# EAGLE library part LM4931 (library Audio-Power-amlifier V.2.0)
LM4931 Boomer™ Audio Power Amplifier Series Audio Subsystem with Mono High Efficiency Loudspeaker and Stereo Headphone Amplifiers
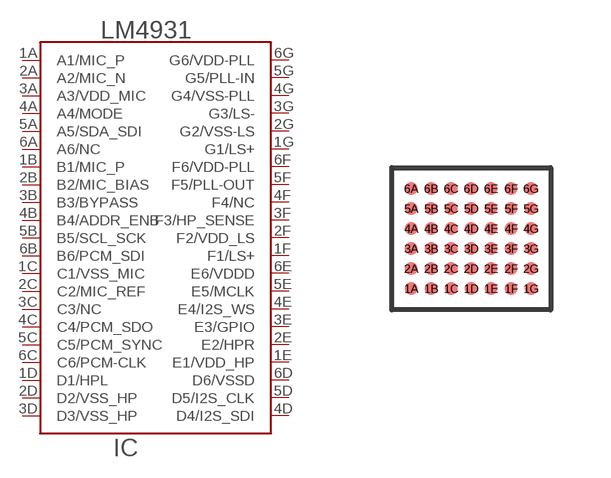
[diagram p250: symbol with the pads of DSBGA42; footprint DSBGA42]

Designator prefix IC

## LM4931  [DSBGA42]
1A  A1/MIC_P  in
1B  B1/MIC_P  in
1C  C1/VSS_MIC  pwr
1D  D1/HPL  out
1E  E1/VDD_HP  pwr
1F  F1/LS+  out
1G  G1/LS+  out
2A  A2/MIC_N  in
2B  B2/MIC_BIAS  out
2C  C2/MIC_REF  in
2D  D2/VSS_HP  pwr
2E  E2/HPR  out
2F  F2/VDD_LS  pwr
2G  G2/VSS-LS  pwr
3A  A3/VDD_MIC  pwr
3B  B3/BYPASS  in
3C  C3/NC  nc
3D  D3/VSS_HP  pwr
3E  E3/GPIO  out
3F  F3/HP_SENSE  in
3G  G3/LS-  out
4A  A4/MODE  in
4B  B4/ADDR_ENB  in
4C  C4/PCM_SDO  out
4D  D4/I2S_SDI  in
4E  E4/I2S_WS
4F  F4/NC  nc
4G  G4/VSS-PLL  pwr
5A  A5/SDA_SDI
5B  B5/SCL_SCK  in
5C  C5/PCM_SYNC
5D  D5/I2S_CLK
5E  E5/MCLK  in
5F  F5/PLL-OUT  out
5G  G5/PLL-IN  in
6A  A6/NC  nc
6B  B6/PCM_SDI  in
6C  C6/PCM-CLK
6D  D6/VSSD  pwr
6E  E6/VDDD  pwr
6F  F6/VDD-PLL  pwr
6G  G6/VDD-PLL  pwr

## Footprint DSBGA42 (pad centres in mm)
DSBGA42 www.ti.com
smd 0.32 x 0.32: 1A -1.5,-1.25; 1B -1,-1.25; 1C -0.5,-1.25; 1D 0,-1.25; 1E 0.5,-1.25; 1F 1,-1.25; 1G 1.5,-1.25; 2A -1.5,-0.75; 2B -1,-0.75; 2C -0.5,-0.75; 2D 0,-0.75; 2E 0.5,-0.75; 2F 1,-0.75; 2G 1.5,-0.75; 3A -1.5,-0.25; 3B -1,-0.25; 3C -0.5,-0.25; 3D 0,-0.25; 3E 0.5,-0.25; 3F 1,-0.25; 3G 1.5,-0.25; 4A -1.5,0.25; 4B -1,0.25; 4C -0.5,0.25; 4D 0,0.25; 4E 0.5,0.25; 4F 1,0.25; 4G 1.5,0.25; 5A -1.5,0.75; 5B -1,0.75; 5C -0.5,0.75; 5D 0,0.75; 5E 0.5,0.75; 5F 1,0.75; 5G 1.5,0.75; 6A -1.5,1.25; 6B -1,1.25; 6C -0.5,1.25; 6D 0,1.25; 6E 0.5,1.25; 6F 1,1.25; 6G 1.5,1.25